# Altium schematic symbol library MS1V-T1K-32.768KHZ-9PF-20PPM-TA-QC-AU.SchLib: 1 symbol
Pins are listed as number, name and electrical type; pins without a type are passive.

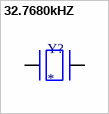
[diagram p0: symbol 32.7680kHZ]

## 32.7680kHZ
designator Y?
32.768 kHz ±20ppm Crystal 9pF 60 kOhms Cylindrical Can, Radial; MP: MS1V-T1K-32.768KHZ-9PF-20PPM-TA-QC-AU; MF: Micro Crystal AG; SnapEDA_Link: https://www.snapeda.com/parts/MS1V-T1K-32.768KHZ-9PF-20PPM-TA-QC-AU/Micro+Crystal/view-part/?ref=snap; Value: *; Check_prices: https://www.snapeda.com/parts/MS1V-T1K-32.768KHZ-9PF-20PPM-TA-QC-AU/Micro+Crystal/view-part/?ref=eda; Purchase-URL: https://pricing.snapeda.com/search/part/MS1V-T1K-32.768KHZ-9PF-20PPM-TA-QC-AU/?ref=eda; Package: SMD-3 Micro Crystal
footprint XTAL_MS1V-T1K-32.768KHZ-9PF-20PPM-TA-QC-AU
pins: 1, 2